# EAGLE library part RA07H4047M (library watchplb)
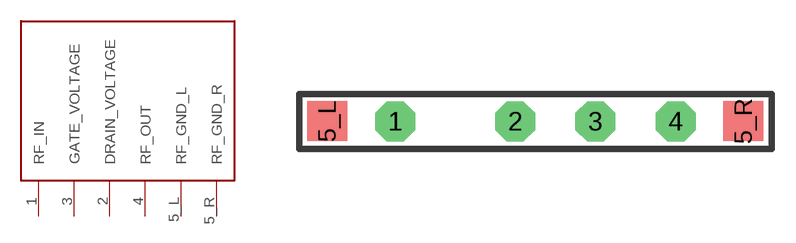
[diagram p4: symbol with the pads of RA07H4047M; footprint RA07H4047M]

Designator prefix -

## RA07H4047M  [RA07H4047M]
1  RF_IN
2  DRAIN_VOLTAGE
3  GATE_VOLTAGE
4  RF_OUT
5_L  RF_GND_L
5_R  RF_GND_R

## Footprint RA07H4047M (pad centres in mm)
drill 1.6 pad 2.54 octagon: 1 6.1,1.75; 2 13.7,1.75; 3 18.8,1.75; 4 23.9,1.75
smd 2.54 x 2.54: 5_L 1.778,1.778; 5_R 28.194,1.778